# EAGLE library part RFSW6042 (library VNA)
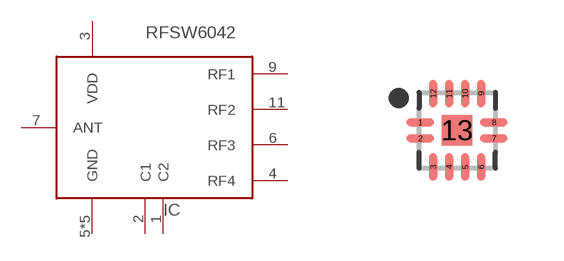
[diagram p13: symbol with the pads of QFN40P180X180X55-13T76N; footprint QFN40P180X180X55-13T76N]

Designator prefix IC

## RFSW6042  [QFN40P180X180X55-13T76N]
1  C2
2  C1
3  VDD
4  RF4
5  GND
6  RF3
7  ANT
8  GND
9  RF1
10  GND
11  RF2
12  GND
13  GND

## Footprint QFN40P180X180X55-13T76N (pad centres in mm)
12-QFN, 0.40 mm pitch, 1.80 X 1.80 X 0.55 mm body, 0.76 X 0.76 mm thermal pad 12-pin QFN package with 0.40 mm pitch with body size 1.80 X 1.80 X 0.55 mm and thermal pad size 0.76 X 0.76 mm
smd 0.688 x 0.2: 1 -0.921,0.2; 2 -0.921,-0.2; 7 0.921,-0.2; 8 0.921,0.2
smd 0.2 x 0.688: 3 -0.6,-0.921; 4 -0.2,-0.921; 5 0.2,-0.921; 6 0.6,-0.921; 9 0.6,0.921; 10 0.2,0.921; 11 -0.2,0.921; 12 -0.6,0.921
smd 0.76 x 0.76: 13 0,0